# EAGLE library part TLC5917 (library NBitWonder)
TI TLC5917 constant current LED Driver
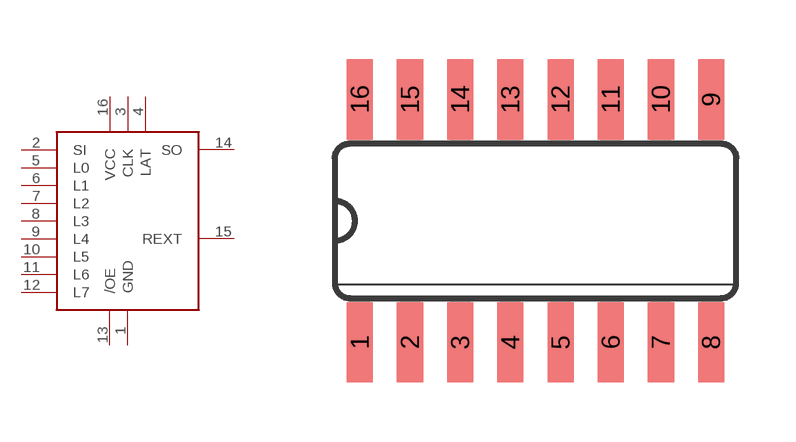
[diagram p6: symbol with the pads of SO16_3.9; footprint SO16_3.9]

Designator prefix -

## TLC5917  [SO16_3.9]
1  GND
2  SI
3  CLK
4  LAT
5  L0
6  L1
7  L2
8  L3
9  L4
10  L5
11  L6
12  L7
13  /OE
14  SO
15  REXT
16  VCC

## Footprint SO16_3.9 (pad centres in mm)
smd 0.66 x 2.032: 1 -4.445,-3.073; 2 -3.175,-3.073; 3 -1.905,-3.073; 4 -0.635,-3.073; 5 0.635,-3.073; 6 1.905,-3.073; 7 3.175,-3.073; 8 4.445,-3.073; 9 4.445,3.073; 10 3.175,3.073; 11 1.905,3.073; 12 0.635,3.073; 13 -0.635,3.073; 14 -1.905,3.073; 15 -3.175,3.073; 16 -4.445,3.073